# EAGLE library part MIC4576 (library Microchip)
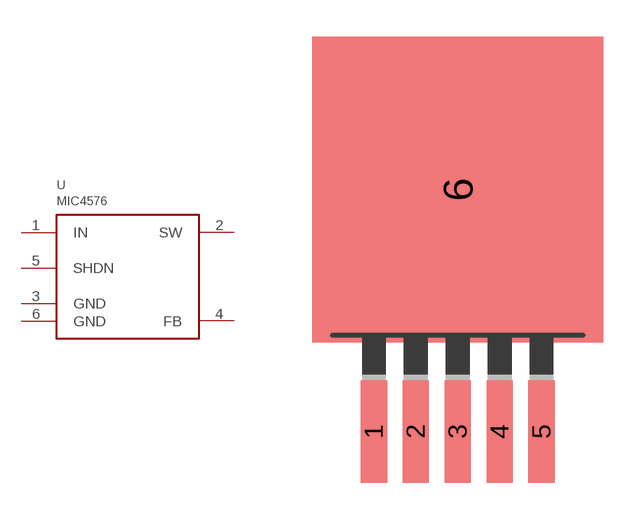
[diagram p7: symbol with the pads of TO263-5; footprint TO263-5]

Designator prefix U

## MIC4576  [TO263-5]
1  IN
2  SW
3  GND
4  FB
5  SHDN
6  GND

## Footprint TO263-5 (pad centres in mm)
smd 1.067 x 4.159: 1 -3.404,-6.791; 2 -1.702,-6.791; 3 0,-6.791; 4 1.702,-6.791; 5 3.404,-6.791
smd 11.8 x 12.41: 6 0,3.04